# EAGLE library part STM32F412ZEJ6 (library circuit_tree)
IC
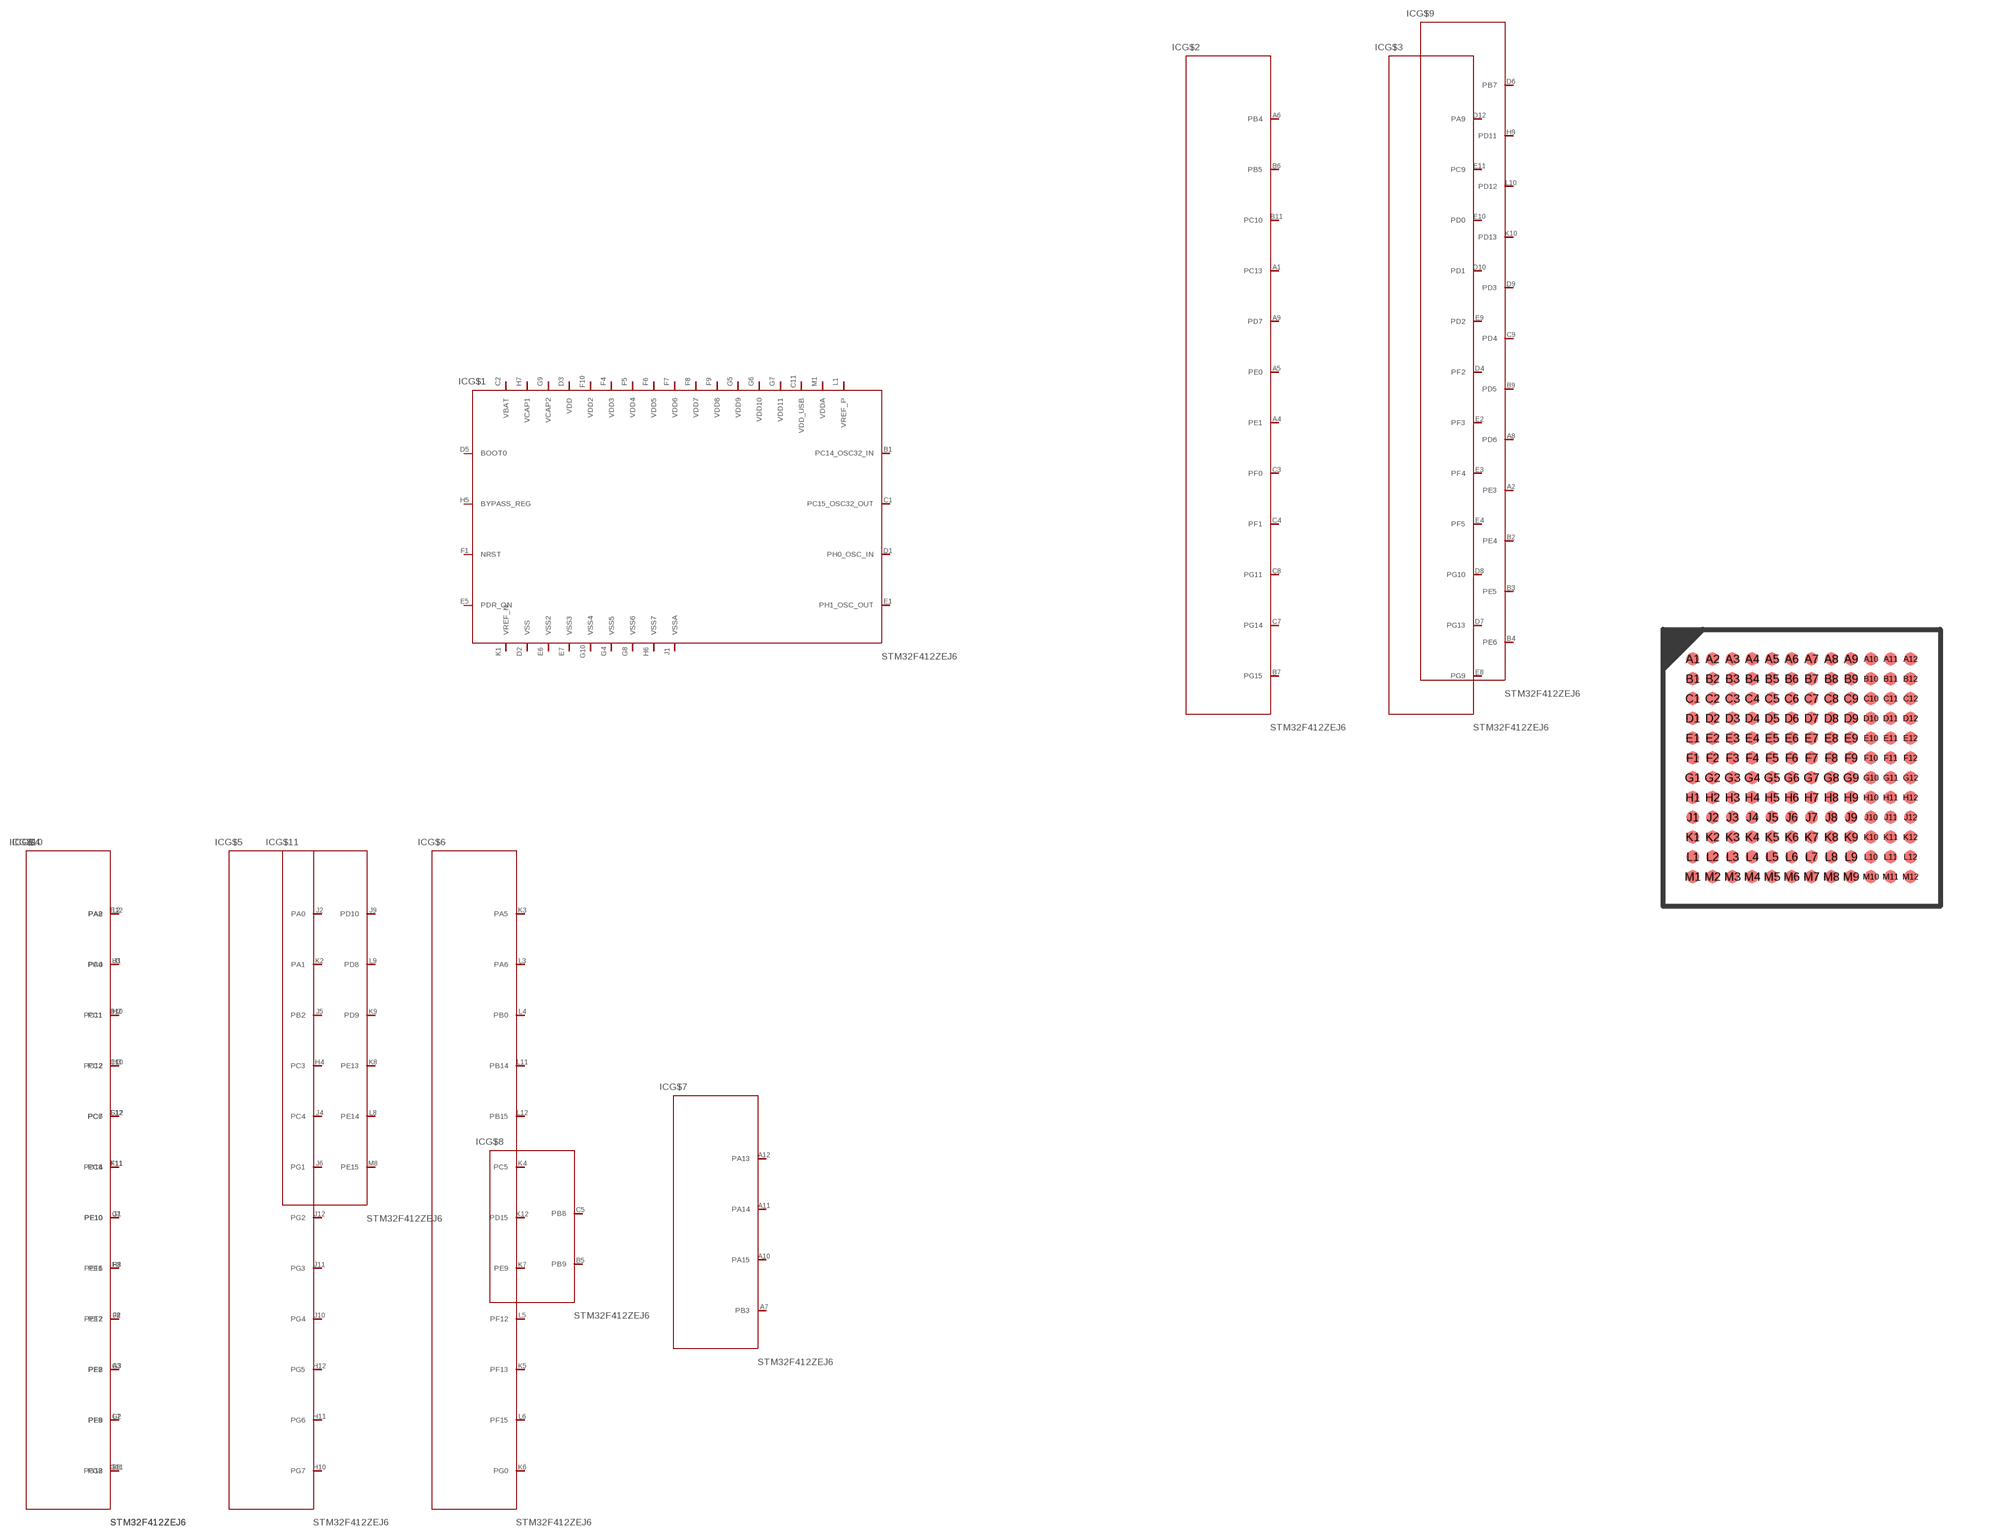
[diagram p10: symbol with the pads of UFBGA144; footprint UFBGA144]

Designator prefix IC; gates G$1=STM32F412ZEJ6 G$2=STM32F412ZEJ62 G$3=STM32F412ZEJ63 G$4=STM32F412ZEJ64 G$5=STM32F412ZEJ65 G$6=STM32F412ZEJ66 G$7=STM32F412ZEJ67 G$8=STM32F412ZEJ68 G$9=STM32F412ZEJ69 G$10=STM32F412ZEJ610 G$11=STM32F412ZEJ611

## STM32F412ZEJ6  [UFBGA144]
A1  G$2:PC13  pas
A2  G$9:PE3  pas
A3  G$10:PE2  pas
A4  G$2:PE1  pas
A5  G$2:PE0  pas
A6  G$2:PB4  pas
A7  G$7:PB3  pas
A8  G$9:PD6  pas
A9  G$2:PD7  pas
A10  G$7:PA15  pas
A11  G$7:PA14  pas
A12  G$7:PA13  pas
B1  G$1:PC14_OSC32_IN  pas
B2  G$9:PE4  pas
B3  G$9:PE5  pas
B4  G$9:PE6  pas
B5  G$8:PB9  pas
B6  G$2:PB5  pas
B7  G$2:PG15  pas
B8  G$10:PG12  pas
B9  G$9:PD5  pas
B10  G$10:PC11  pas
B11  G$2:PC10  pas
C1  G$1:PC15_OSC32_OUT  pas
C2  G$1:VBAT  pas
C3  G$2:PF0  pas
C4  G$2:PF1  pas
C5  G$8:PB8  pas
C7  G$2:PG14  pas
C8  G$2:PG11  pas
C9  G$9:PD4  pas
C10  G$10:PC12  pas
C11  G$1:VDD_USB  pas
D1  G$1:PH0_OSC_IN  pas
D2  G$1:VSS  pas
D3  G$1:VDD  pas
D4  G$3:PF2  pas
D5  G$1:BOOT0  pas
D6  G$9:PB7  pas
D7  G$3:PG13  pas
D8  G$3:PG10  pas
D9  G$9:PD3  pas
D10  G$3:PD1  pas
D12  G$3:PA9  pas
E1  G$1:PH1_OSC_OUT  pas
E2  G$3:PF3  pas
E3  G$3:PF4  pas
E4  G$3:PF5  pas
E5  G$1:PDR_ON  pas
E6  G$1:VSS2  pas
E7  G$1:VSS3  pas
E8  G$3:PG9  pas
E9  G$3:PD2  pas
E10  G$3:PD0  pas
E11  G$3:PC9  pas
E12  G$4:PA8  pas
F1  G$1:NRST  pas
F2  G$4:PF7  pas
F3  G$4:PF6  pas
F4  G$1:VDD3  pas
F5  G$1:VDD4  pas
F6  G$1:VDD5  pas
F7  G$1:VDD6  pas
F8  G$1:VDD7  pas
F9  G$1:VDD8  pas
F10  G$1:VDD2  pas
F11  G$4:PC8  pas
F12  G$4:PC7  pas
G1  G$4:PF10  pas
G2  G$4:PF9  pas
G3  G$4:PF8  pas
G4  G$1:VSS5  pas
G5  G$1:VDD9  pas
G6  G$1:VDD10  pas
G7  G$1:VDD11  pas
G8  G$1:VSS6  pas
G9  G$1:VCAP2  pas
G10  G$1:VSS4  pas
G11  G$4:PG8  pas
G12  G$10:PC6  pas
H1  G$4:PC0  pas
H2  G$4:PC1  pas
H3  G$4:PC2  pas
H4  G$5:PC3  pas
H5  G$1:BYPASS_REG  pas
H6  G$1:VSS7  pas
H7  G$1:VCAP1  pas
H8  G$10:PE11  pas
H9  G$9:PD11  pas
H10  G$5:PG7  pas
H11  G$5:PG6  pas
H12  G$5:PG5  pas
J1  G$1:VSSA  pas
J2  G$5:PA0  pas
J3  G$10:PA4  pas
J4  G$5:PC4  pas
J5  G$5:PB2  pas
J6  G$5:PG1  pas
J7  G$10:PE10  pas
J8  G$10:PE12  pas
J9  G$11:PD10  pas
J10  G$5:PG4  pas
J11  G$5:PG3  pas
J12  G$5:PG2  pas
K1  G$1:VREF_N  pas
K2  G$5:PA1  pas
K3  G$6:PA5  pas
K4  G$6:PC5  pas
K5  G$6:PF13  pas
K6  G$6:PG0  pas
K7  G$6:PE9  pas
K8  G$11:PE13  pas
K9  G$11:PD9  pas
K10  G$9:PD13  pas
K11  G$10:PD14  pas
K12  G$6:PD15  pas
L1  G$1:VREF_P  pas
L2  G$10:PA2  pas
L3  G$6:PA6  pas
L4  G$6:PB0  pas
L5  G$6:PF12  pas
L6  G$6:PF15  pas
L7  G$10:PE8  pas
L8  G$11:PE14  pas
L9  G$11:PD8  pas
L10  G$9:PD12  pas
L11  G$6:PB14  pas
L12  G$6:PB15  pas
M1  G$1:VDDA  pas
M8  G$11:PE15  pas

## Footprint UFBGA144 (pad centres in mm)
UFBGA144 7 x 7 mm, 12 x 12-pin ultra fine 0.5 mm pitch ball grid array package
smd 0.32 x 0.32: A1 -2.75,2.75; A2 -2.25,2.75; A3 -1.75,2.75; A4 -1.25,2.75; A5 -0.75,2.75; A6 -0.25,2.75; A7 0.25,2.75; A8 0.75,2.75; A9 1.25,2.75; A10 1.75,2.75; A11 2.25,2.75; A12 2.75,2.75; B1 -2.75,2.25; B2 -2.25,2.25; B3 -1.75,2.25; B4 -1.25,2.25; B5 -0.75,2.25; B6 -0.25,2.25; B7 0.25,2.25; B8 0.75,2.25; B9 1.25,2.25; B10 1.75,2.25; B11 2.25,2.25; B12 2.75,2.25; C1 -2.75,1.75; C2 -2.25,1.75; C3 -1.75,1.75; C4 -1.25,1.75; C5 -0.75,1.75; C6 -0.25,1.75; C7 0.25,1.75; C8 0.75,1.75; C9 1.25,1.75; C10 1.75,1.75; C11 2.25,1.75; C12 2.75,1.75; D1 -2.75,1.25; D2 -2.25,1.25; D3 -1.75,1.25; D4 -1.25,1.25; D5 -0.75,1.25; D6 -0.25,1.25; D7 0.25,1.25; D8 0.75,1.25; D9 1.25,1.25; D10 1.75,1.25; D11 2.25,1.25; D12 2.75,1.25; E1 -2.75,0.75; E2 -2.25,0.75; E3 -1.75,0.75; E4 -1.25,0.75; E5 -0.75,0.75; E6 -0.25,0.75; E7 0.25,0.75; E8 0.75,0.75; E9 1.25,0.75; E10 1.75,0.75; E11 2.25,0.75; E12 2.75,0.75; F1 -2.75,0.25; F2 -2.25,0.25; F3 -1.75,0.25; F4 -1.25,0.25; F5 -0.75,0.25; F6 -0.25,0.25; F7 0.25,0.25; F8 0.75,0.25; F9 1.25,0.25; F10 1.75,0.25; F11 2.25,0.25; F12 2.75,0.25; G1 -2.75,-0.25; G2 -2.25,-0.25; G3 -1.75,-0.25; G4 -1.25,-0.25; G5 -0.75,-0.25; G6 -0.25,-0.25; G7 0.25,-0.25; G8 0.75,-0.25; G9 1.25,-0.25; G10 1.75,-0.25; G11 2.25,-0.25; G12 2.75,-0.25; H1 -2.75,-0.75; H2 -2.25,-0.75; H3 -1.75,-0.75; H4 -1.25,-0.75; H5 -0.75,-0.75; H6 -0.25,-0.75; H7 0.25,-0.75; H8 0.75,-0.75; H9 1.25,-0.75; H10 1.75,-0.75; H11 2.25,-0.75; H12 2.75,-0.75; J1 -2.75,-1.25; J2 -2.25,-1.25; J3 -1.75,-1.25; J4 -1.25,-1.25; J5 -0.75,-1.25; J6 -0.25,-1.25; J7 0.25,-1.25; J8 0.75,-1.25; J9 1.25,-1.25; J10 1.75,-1.25; J11 2.25,-1.25; J12 2.75,-1.25; K1 -2.75,-1.75; K2 -2.25,-1.75; K3 -1.75,-1.75; K4 -1.25,-1.75; K5 -0.75,-1.75; K6 -0.25,-1.75; K7 0.25,-1.75; K8 0.75,-1.75; K9 1.25,-1.75; K10 1.75,-1.75; K11 2.25,-1.75; K12 2.75,-1.75; L1 -2.75,-2.25; L2 -2.25,-2.25; L3 -1.75,-2.25; L4 -1.25,-2.25; L5 -0.75,-2.25; L6 -0.25,-2.25; L7 0.25,-2.25; L8 0.75,-2.25; L9 1.25,-2.25; L10 1.75,-2.25; L11 2.25,-2.25; L12 2.75,-2.25; M1 -2.75,-2.75; M2 -2.25,-2.75; M3 -1.75,-2.75; M4 -1.25,-2.75; M5 -0.75,-2.75; M6 -0.25,-2.75; M7 0.25,-2.75; M8 0.75,-2.75; M9 1.25,-2.75; M10 1.75,-2.75; M11 2.25,-2.75; M12 2.75,-2.75